# EAGLE library part PINHEADER-7P (library Pinheader)
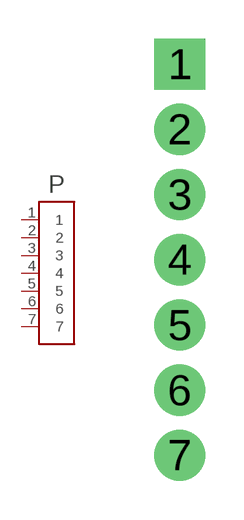
[diagram p0: symbol with the pads of 7P; footprint 7P]

Designator prefix P

## PINHEADER-7P  [7P]
1  1
2  2
3  3
4  4
5  5
6  6
7  7

## Footprint 7P (pad centres in mm)
drill 1 pad 2 square: 1 0,7.62
drill 1 pad 2: 2 0,5.08; 3 0,2.54; 4 0,0; 5 0,-2.54; 6 0,-5.08; 7 0,-7.62